# EAGLE library part LTC6915CGN (library mgr_components)
PGA
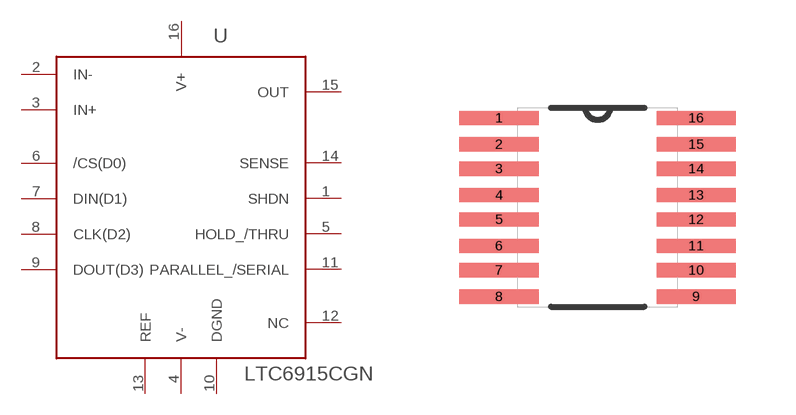
[diagram p0: symbol with the pads of SOP65P640X120-16N; footprint SOP65P640X120-16N]

Designator prefix -

## LTC6915CGN  [SOP65P640X120-16N]
1  SHDN
2  IN-  in
3  IN+  in
4  V-  pwr
5  HOLD_/THRU
6  /CS(D0)
7  DIN(D1)
8  CLK(D2)
9  DOUT(D3)
10  DGND  pwr
11  PARALLEL_/SERIAL  in
12  NC  nc
13  REF
14  SENSE
15  OUT  out
16  V+  pwr

## Footprint SOP65P640X120-16N (pad centres in mm)
smd 1.981 x 0.356: 1 -2.464,2.235; 2 -2.464,1.575; 3 -2.464,0.965; 4 -2.464,0.305; 5 -2.464,-0.305; 6 -2.464,-0.965; 7 -2.464,-1.575; 8 -2.464,-2.235; 9 2.464,-2.235; 10 2.464,-1.575; 11 2.464,-0.965; 12 2.464,-0.305; 13 2.464,0.305; 14 2.464,0.965; 15 2.464,1.575; 16 2.464,2.235